# Altium schematic symbol library LAN ETH schem.SchLib: 1 symbol
Pins are listed as number, name and electrical type; pins without a type are passive.

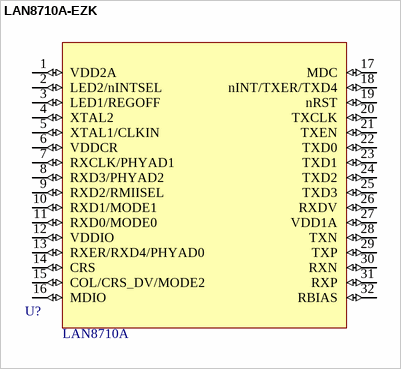
[diagram p0: symbol LAN8710A-EZK]

## LAN8710A-EZK
designator U?  Manufacturer P/N: LAN8710A  (hidden comment: *)
LAN8710A-EZK; Manufacturer: Microchip
footprint QFN-32_UH-L
pins: 1 VDD2A (io), 2 LED2/nINTSEL (io), 3 LED1/REGOFF (io), 4 XTAL2 (io), 5 XTAL1/CLKIN (io), 6 VDDCR (io), 7 RXCLK/PHYAD1 (io), 8 RXD3/PHYAD2 (io), 9 RXD2/RMIISEL (io), 10 RXD1/MODE1 (io), 11 RXD0/MODE0 (io), 12 VDDIO (io), 13 RXER/RXD4/PHYAD0 (io), 14 CRS (io), 15 COL/CRS_DV/MODE2 (io), 16 MDIO (io), 17 MDC (io), 18 nINT/TXER/TXD4 (io), 19 nRST (io), 20 TXCLK (io), 21 TXEN (io), 22 TXD0 (io), 23 TXD1 (io), 24 TXD2 (io), 25 TXD3 (io), 26 RXDV (io), 27 VDD1A (io), 28 TXN (io), 29 TXP (io), 30 RXN (io), 31 RXP (io), 32 RBIAS (io)